# Altium schematic symbol library NeoPixel.SchLib: 2 symbols
Pins are listed as number, name and electrical type; pins without a type are passive.

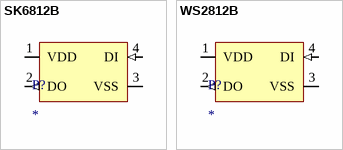
[diagram p0: symbols SK6812B to WS2812B]

## SK6812B
designator P?
Angled; ComponentLink1Description: Supplier; ComponentLink1URL: https://www.digikey.ch/en/products/detail/adafruit-industries-llc/4691/13170955
footprint SK6812B (SMD size 4020)
pins: 1 VDD (power), 2 DO (out), 3 VSS (power), 4 DI (in)

## WS2812B
designator P?
ComponentLink1Description: Datasheet; ComponentLink1URL: http://cdn.sparkfun.com/datasheets/BreakoutBoards/WS2812B.pdf
footprint WS2812B_SMD
footprint WS2812_THT_8
pins: 1 VDD (power), 2 DO (out), 3 VSS (power), 4 DI (in)